# Altium schematic symbol library TTN_Gateway_V2.3.1.SCHLIB: 45 symbols
Pins are listed as number, name and electrical type; pins without a type are passive.

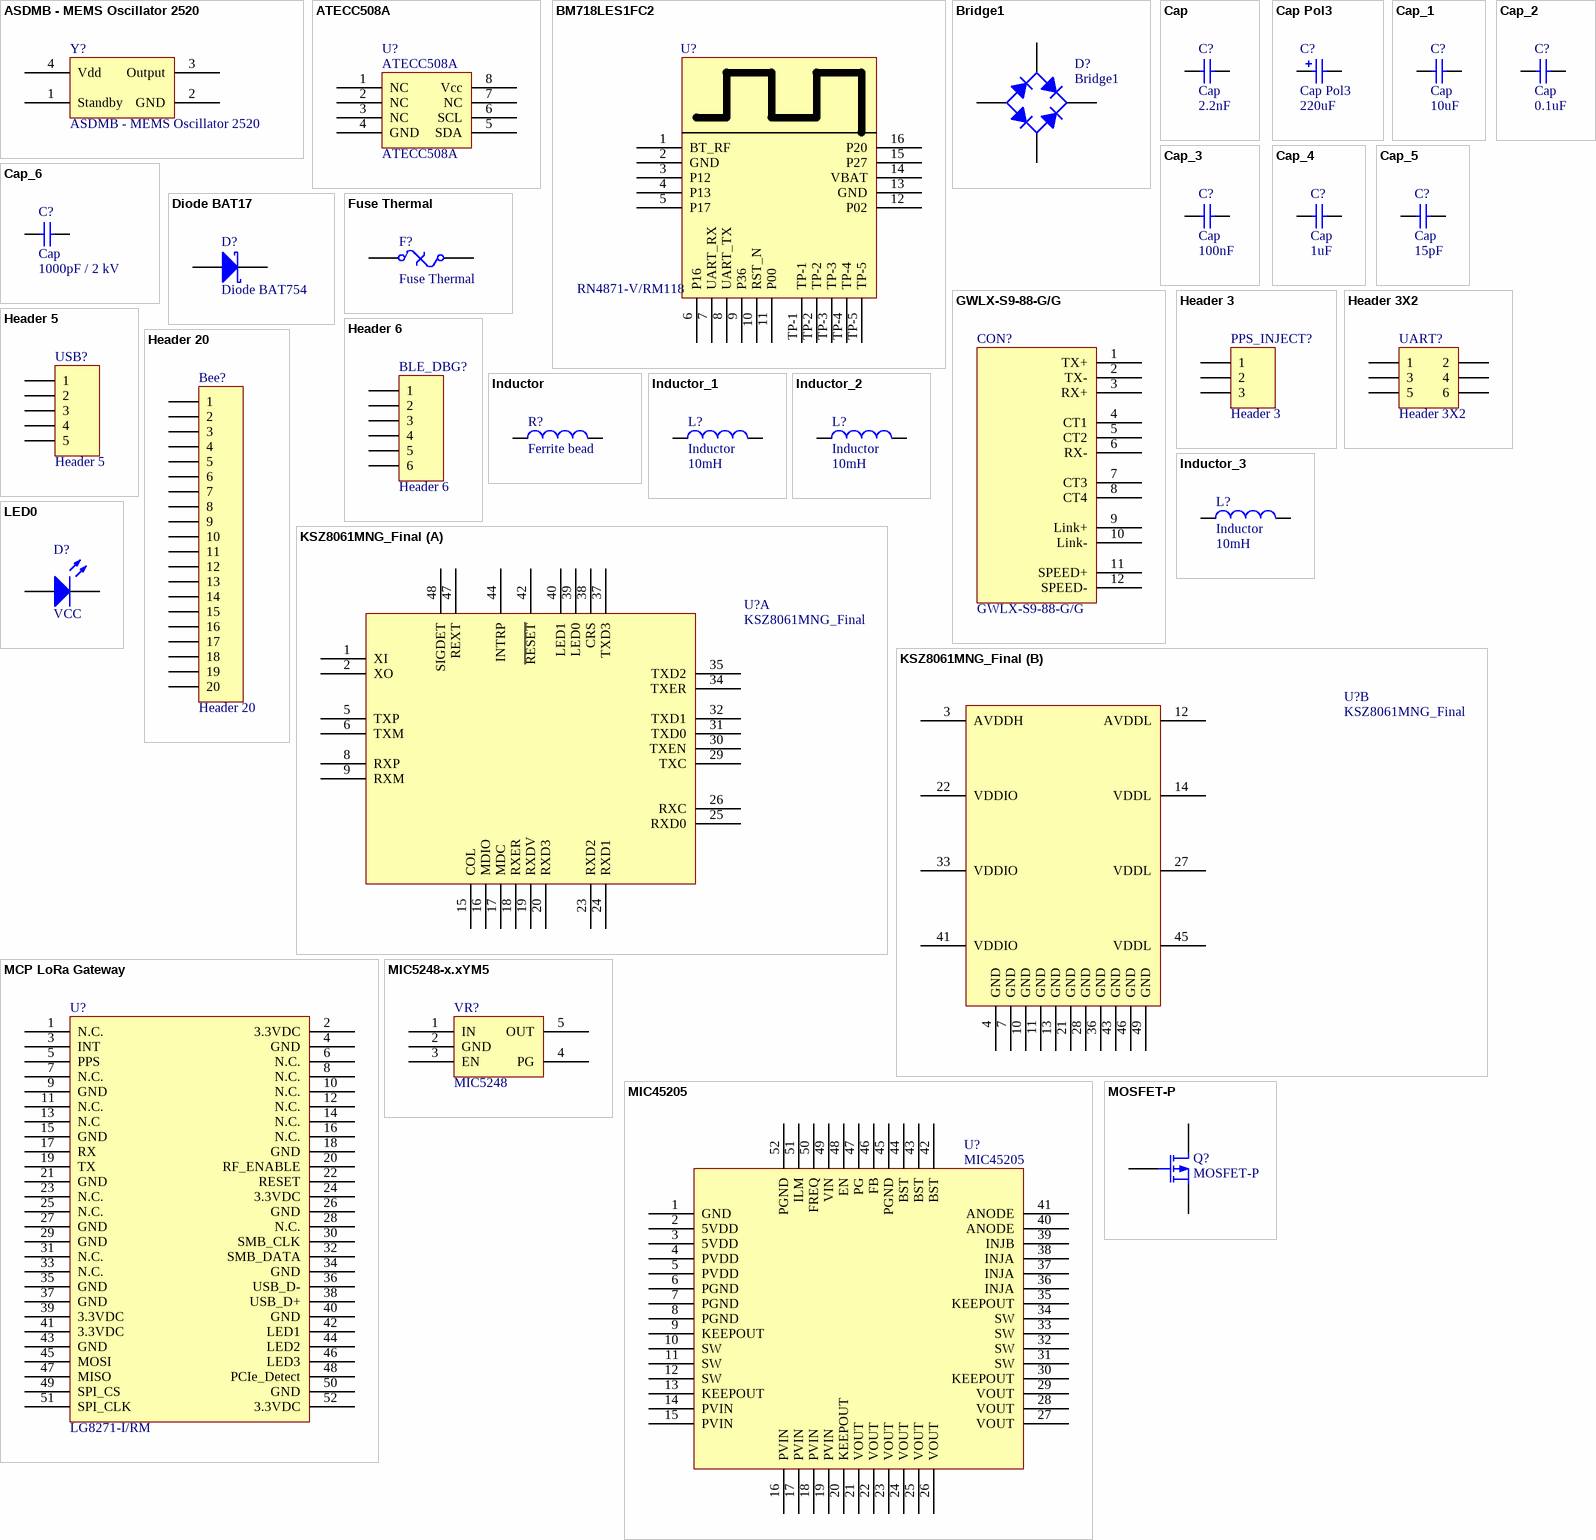
[diagram p0: symbols ASDMB - MEMS Oscillator 2520 to MOSFET-P]

## ASDMB - MEMS Oscillator 2520
designator Y?
footprint BT-XTAL_2520
pins: 1 Standby, 2 GND, 3 Output, 4 Vdd

## ATECC508A
designator U?
footprint UDFN-MU8 (Footprint not found)
footprint 8MA4 (SON, 8-Leads, Body 2x2mm, Pitch 0.5mm)
footprint UDFN-MU8 (SON, 8-Leads, Body 2x3mm, Pitch 0.5mm, Microchip Recommended)
footprint UDFN-MU8 (SON, 8-Leads, Body 2x3mm, Pitch 0.5mm, Microchip Recommended)
footprint DFN-MF8 (SON, 8-Leads, Body 3x3mm, Pitch 0.65mm, Microchip Recommended)
footprint UDFN-MU8 (SON, 8-Leads, Body 2x3mm, Pitch 0.5mm, Microchip Recommended)
footprint UDFN-MU8-non-thermal (UDFN, 8-Leads, Body 2x3mm, Pitch 0.5mm, Microchip Recommended)
footprint UDFN-MU8-non-thermal (UDFN, 8-Leads, Body 2x3mm, Pitch 0.5mm, Microchip Recommended)
pins: 1 NC, 2 NC, 3 NC, 4 GND, 5 SDA, 6 SCL, 7 NC, 8 Vcc

## BM718LES1FC2
designator U?, comment RN4871-V/RM118
RN4871-V/RM118 Bluetooth 4.2 LE Mesh
footprint BM71BLES1FC2 (Microchip BM71BLES1FC2 BLE module)
pins: 1 BT_RF, 2 GND, 3 P12, 4 P13, 5 P17, 6 P16, 7 UART_RX, 8 UART_TX, 9 P36, 10 RST_N, 11 P00, 12 P02, 13 GND, 14 VBAT, 15 P27, 16 P20, TP-1, TP-2, TP-3, TP-4, TP-5

## Bridge1
designator D?
Full Wave Diode Bridge; Published: 8-Jun-2000; LatestRevisionDate: 29-May-2009; LatestRevisionNote: Sch pins A & K swapped.; DatasheetVersion: E2732B; PackageReference: D-38; Publisher: Altium Limited; PackageDescription: Bridge Rectifier; 4 Terminals; Body 9.4 x 9.4 mm (typ); Pitch 5.08 mm; Supplier 1: Digi-Key; Supplier Part Number 1: DF04SCT-ND; Supplier 2: Farnell; Supplier Part Number 2: 1467469; Datasheet: https://www.digikey.nl/product-detail/en/fairchild-on-semiconductor/DF04S/DF04SCT-ND/965570
footprint D-38 (Bridge Rectifier; 4 Terminals; Body 9.4 x 9.4 mm (typ); Pitch 5.08 mm)
simulation model BRIDGE (Spice Subcircuit)
footprint 4-SDIP
footprint BR6 Rectifier (Rectifier BR6 footprint)
footprint BR6 Rectifier (Rectifier BR6 footprint)
footprint BR6 Rectifier Small (Rectifier BR6 footprint)
pins: 1 K, 2 A, 3 C, 4 C

## Cap
designator C?  value 2.2nF
Capacitor; Published: 8-Jun-2000; LatestRevisionDate: 17-Jul-2002; LatestRevisionNote: Re-released for DXP Platform.; PackageReference: RAD-0.3; Publisher: Altium Limited; PackageDescription: Radial Cap, Thru-Hole; 2 Leads; 0.3 in Pin Spacing
simulation model CAP (Capacitor)
signal-integrity model Cap
footprint C0603 (Chip Capacitor, Body 1.6x0.8mm, IPC High Density)
pins: 1, 2

## Cap Pol3
designator C?  value 220uF
Polarized Capacitor (Surface Mount); Published: 8-Jun-2000; LatestRevisionDate: 29-May-2009; LatestRevisionNote: IPC-7351 Footprint Added.; PackageReference: C0805; Publisher: Altium Limited; PackageDescription: Chip Capacitor
footprint C0805 (Chip Capacitor, Body 2.0x1.3mm, IPC High Density)
footprint 1812 (Chip Capacitor, Body 4.5x3.2mm, IPC High Density)
footprint 1825 (Chip Capacitor, Body 4.5x6.4mm, IPC High Density)
footprint C2225 (Chip Capacitor, Body 5.7x6.4mm, IPC High Density)
footprint 2220 (Chip Capacitor, Body 5.7x5.0mm, IPC High Density)
simulation model CAP (Capacitor)
signal-integrity model Cap Pol
footprint RB5-10.5 (Capacitor (Radial); 2 Leads)
footprint CAP 10 MM
footprint SMD_CAP_9x8.3mm_220uF
footprint SMD_CAP_10x7.7mm_220uF - duplicate (UCD1V221MCL6GS)
pins: 1, 2
1 alternate drawing of the same symbol

## Cap_1
designator C?, comment Cap  value 10uF
Capacitor; Published: 8-Jun-2000; LatestRevisionDate: 17-Jul-2002; LatestRevisionNote: Re-released for DXP Platform.; PackageReference: RAD-0.3; Publisher: Altium Limited; PackageDescription: Radial Cap, Thru-Hole; 2 Leads; 0.3 in Pin Spacing
simulation model CAP (Capacitor)
signal-integrity model Cap
footprint C0603 (Chip Capacitor, Body 1.6x0.8mm, IPC High Density)
footprint C1206 (Chip Capacitor, Body 3.2x1.6mm, IPC High Density)
footprint C1210 (Chip Capacitor, Body 3.2x2.5mm, IPC High Density)
pins: 1, 2

## Cap_2
designator C?, comment Cap  value 0.1uF
Capacitor; Published: 8-Jun-2000; LatestRevisionDate: 17-Jul-2002; LatestRevisionNote: Re-released for DXP Platform.; PackageReference: RAD-0.3; Publisher: Altium Limited; PackageDescription: Radial Cap, Thru-Hole; 2 Leads; 0.3 in Pin Spacing
simulation model CAP (Capacitor)
signal-integrity model Cap
footprint C0603 (Chip Capacitor, Body 1.6x0.8mm, IPC High Density)
footprint C1206 (Chip Capacitor, Body 3.2x1.6mm, IPC High Density)
pins: 1, 2

## Cap_3
designator C?, comment Cap  value 100nF
Capacitor; Published: 8-Jun-2000; LatestRevisionDate: 17-Jul-2002; LatestRevisionNote: Re-released for DXP Platform.; PackageReference: RAD-0.3; Publisher: Altium Limited; PackageDescription: Radial Cap, Thru-Hole; 2 Leads; 0.3 in Pin Spacing
footprint RAD-0.3 (Radial Cap, Thru-Hole; 2 Leads; 0.3 in Pin Spacing)
simulation model CAP (Capacitor)
signal-integrity model Cap
footprint 6-0805_L (Chip Resistor, Body 2.0x1.2mm, IPC High Density)
pins: 1, 2

## Cap_4
designator C?, comment Cap  value 1uF
Capacitor; Published: 8-Jun-2000; LatestRevisionDate: 17-Jul-2002; LatestRevisionNote: Re-released for DXP Platform.; PackageReference: RAD-0.3; Publisher: Altium Limited; PackageDescription: Radial Cap, Thru-Hole; 2 Leads; 0.3 in Pin Spacing
footprint RAD-0.3 (Radial Cap, Thru-Hole; 2 Leads; 0.3 in Pin Spacing)
simulation model CAP (Capacitor)
signal-integrity model Cap
footprint C0805 (Chip Capacitor, Body 2.0x1.3mm, IPC High Density)
footprint J1-0603 (Chip Resistor, Body 1.6x0.8mm, IPC High Density)
footprint C0603 (Chip Capacitor, Body 1.6x0.8mm, IPC High Density)
pins: 1, 2

## Cap_5
designator C?, comment Cap  value 15pF
Capacitor; Published: 8-Jun-2000; LatestRevisionDate: 17-Jul-2002; LatestRevisionNote: Re-released for DXP Platform.; PackageReference: RAD-0.3; Publisher: Altium Limited; PackageDescription: Radial Cap, Thru-Hole; 2 Leads; 0.3 in Pin Spacing
simulation model CAP (Capacitor)
signal-integrity model Cap
footprint C0603 (Chip Capacitor, Body 1.6x0.8mm, IPC High Density)
footprint C0805 (Chip Capacitor, Body 2.0x1.3mm, IPC High Density)
pins: 1, 2

## Cap_6
designator C?, comment Cap  value 1000pF / 2 kV
Capacitor; Published: 8-Jun-2000; LatestRevisionDate: 17-Jul-2002; LatestRevisionNote: Re-released for DXP Platform.; PackageReference: RAD-0.3; Publisher: Altium Limited; PackageDescription: Radial Cap, Thru-Hole; 2 Leads; 0.3 in Pin Spacing
footprint RAD-0.3 (Radial Cap, Thru-Hole; 2 Leads; 0.3 in Pin Spacing)
simulation model CAP (Capacitor)
signal-integrity model Cap
footprint CAP HV 5-7.5mm (Radial Cap, Thru-Hole; 2 Leads; 0.3 in Pin Spacing)
pins: 1, 2

## Diode BAT17
designator D?, comment Diode BAT754
Silicon RF Schottky Diode for Mixer Applications in the VHF/UHF Range; Note: Pin 2 is not connected and not drawn.; Published: 21-Mar-2003; LatestRevisionDate: 29-May-2009; LatestRevisionNote: IPC-7351 Footprint Added.; DatasheetVersion: Oct-1999; PackageVersion: Sep-2001; PackageReference: SOT-23; Publisher: Altium Limited; PackageDescription: 3-Pin SOT-23 Package 0.95 mm Pitch, 2.5 mm Lead Span; ComponentLink1Description: Manufacturer Link; ComponentLink1URL: http://www.infineon.com/; ComponentLink2Description: Datasheet; ComponentLink2URL: http://www.infineon.com/upload/Document/cmc_upload/documents/009/363/bat17series.pdf
footprint SOT-23_N (SOT23, 3-Leads, Body 2.9x1.3mm, Pitch 0.95mm, Lead Span 2.5mm, IPC Medium Density)
footprint SOT-23_L (SOT23, 3-Leads, Body 2.9x1.3mm, Pitch 0.95mm, Lead Span 2.5mm, IPC High Density)
footprint SOT-23_M (SOT23, 3-Leads, Body 2.9x1.3mm, Pitch 0.95mm, Lead Span 2.5mm, IPC Low Density)
simulation model D188 (DIODE)
pins: 1 A, 3 K

## Fuse Thermal
designator F?
Thermal Fuse; Published: 24-Mar-1999; LatestRevisionDate: 17-Jul-2002; LatestRevisionNote: Re-released for DXP Platform.; PackageReference: PIN-W2/E2.8; Publisher: Altium Limited; PackageDescription: Thru-Hole; 2 Leads
footprint 1812-polyfuse (Chip Capacitor, Body 4.5x3.2mm, IPC High Density)
pins: 1, 2

## GWLX-S9-88-G/G
designator CON?
GWLX-S9-88-G/G Ethernet Jack w/Leds
footprint GWLX-S9-88-G/G (GWLX-S9-88-G/G Ethernet Jack with Leds)
pins: 1 TX+, 2 TX-, 3 RX+, 4 CT1, 5 CT2, 6 RX-, 7 CT3, 8 CT4, 9 Link+, 10 Link-, 11 SPEED+, 12 SPEED-

## Header 3
designator PPS_INJECT?
Header, 3-Pin; LatestRevisionDate: 17-Jul-2002; LatestRevisionNote: Re-released for DXP Platform.; Publisher: Altium Limited
footprint HDR1X3 (Connector; Header; 3 Position)
signal-integrity model Connector
pins: 1, 2, 3

## Header 3X2
designator UART?
Header, 3-Pin, Dual row; LatestRevisionDate: 17-Jul-2002; LatestRevisionNote: Re-released for DXP Platform.; Publisher: Altium Limited
footprint HDR2X3 (Connector; Header; 3x2 Position)
signal-integrity model Connector
pins: 1, 2, 3, 4, 5, 6

## Header 5
designator USB?
Header, 5-Pin; LatestRevisionDate: 17-Jul-2002; LatestRevisionNote: Re-released for DXP Platform.; Publisher: Altium Limited
footprint HDR1X5 (Connector; Header; 5 Position)
signal-integrity model Connector
footprint usb
footprint 10118193-0001LF (Mirco USB Connector)
footprint Vertical MicroUSB (GCT vertical throughole usb: Farnell: 1080990)
footprint Vertical Micro USB SMD (KMMVX-SMT-BS-BTR)
footprint Vertical MicroUSB (GCT vertical throughole usb: Farnell: 1080990)
pins: 1, 2, 3, 4, 5

## Header 6
designator BLE_DBG?
Header, 6-Pin; LatestRevisionDate: 17-Jul-2002; LatestRevisionNote: Re-released for DXP Platform.; Publisher: Altium Limited
footprint HDR1X6 (Connector; Header; 6 Position)
signal-integrity model Connector
pins: 1, 2, 3, 4, 5, 6

## Header 20
designator Bee?
Header, 20-Pin; LatestRevisionDate: 17-Jul-2002; LatestRevisionNote: Re-released for DXP Platform.; Publisher: Altium Limited
footprint HDR1X20 (Connector; Header; 20 Position)
signal-integrity model Connector
footprint PCBComponent_1
footprint BeeSlot
pins: 1, 2, 3, 4, 5, 6, 7, 8, 9, 10, 11, 12, 13, 14, 15, 16, 17, 18, 19, 20

## Inductor
designator R?, comment Ferrite bead
Inductor; Code_IEC: 1005; Published: 8-Jun-2000; LatestRevisionDate: 29-May-2009; LatestRevisionNote: IPC-7351 Footprint Added.; PackageReference: 0402-A; Publisher: Altium Limited; PackageDescription: Chip Inductor; Code_JEITA: 0402
simulation model INDUCTOR (Inductor)
signal-integrity model Inductor
footprint R0603
pins: 1, 2

## Inductor_1
designator L?, comment Inductor  value 10mH
Code_IEC: 1005; Published: 8-Jun-2000; LatestRevisionDate: 29-May-2009; LatestRevisionNote: IPC-7351 Footprint Added.; PackageReference: 0402-A; Publisher: Altium Limited; PackageDescription: Chip Inductor; Code_JEITA: 0402
footprint 0402-A (Chip Inductor, Body 1.0x0.5mm, IPC High Density)
footprint INDC1608L (Chip Inductor, Body 1.6x0.8mm, IPC High Density)
footprint 2029 (Chip Inductor, Body 2.0x1.2mm, IPC High Density)
footprint 0603 (Chip Inductor, Body 0.6x0.3mm, IPC High Density)
footprint INDC3216 (Chip Inductor, Body 3.2x1.6mm, IPC High Density)
footprint INDC4532 (Chip Inductor, Body 4.5x3.2mm, IPC High Density)
simulation model INDUCTOR (Inductor)
signal-integrity model Inductor
footprint 0603 (Chip Inductor, Body 0.6x0.3mm, IPC High Density)
footprint 6-0805_L (Chip Resistor, Body 2.0x1.2mm, IPC High Density)
pins: 1, 2

## Inductor_2
designator L?, comment Inductor  value 10mH
Code_IEC: 1005; Published: 8-Jun-2000; LatestRevisionDate: 29-May-2009; LatestRevisionNote: IPC-7351 Footprint Added.; PackageReference: 0402-A; Publisher: Altium Limited; PackageDescription: Chip Inductor; Code_JEITA: 0402
footprint 0402-A (Chip Inductor, Body 1.0x0.5mm, IPC High Density)
footprint INDC1608L (Chip Inductor, Body 1.6x0.8mm, IPC High Density)
footprint 2029 (Chip Inductor, Body 2.0x1.2mm, IPC High Density)
footprint 0603 (Chip Inductor, Body 0.6x0.3mm, IPC High Density)
footprint INDC3216 (Chip Inductor, Body 3.2x1.6mm, IPC High Density)
footprint INDC4532 (Chip Inductor, Body 4.5x3.2mm, IPC High Density)
simulation model INDUCTOR (Inductor)
signal-integrity model Inductor
footprint 6-0805_L (Chip Resistor, Body 2.0x1.2mm, IPC High Density)
pins: 1, 2

## Inductor_3
designator L?, comment Inductor  value 10mH
Code_IEC: 1005; Published: 8-Jun-2000; LatestRevisionDate: 29-May-2009; LatestRevisionNote: IPC-7351 Footprint Added.; PackageReference: 0402-A; Publisher: Altium Limited; PackageDescription: Chip Inductor; Code_JEITA: 0402
footprint 0402-A (Chip Inductor, Body 1.0x0.5mm, IPC High Density)
footprint INDC1608L (Chip Inductor, Body 1.6x0.8mm, IPC High Density)
footprint 2029 (Chip Inductor, Body 2.0x1.2mm, IPC High Density)
footprint 0603 (Chip Inductor, Body 0.6x0.3mm, IPC High Density)
footprint INDC3216 (Chip Inductor, Body 3.2x1.6mm, IPC High Density)
footprint INDC4532 (Chip Inductor, Body 4.5x3.2mm, IPC High Density)
simulation model INDUCTOR (Inductor)
signal-integrity model Inductor
footprint 6-0805_M (Chip Resistor, Body 2.0x1.2mm, IPC Low Density)
footprint 2029 (Chip Inductor, Body 2.0x1.2mm, IPC High Density)
pins: 1, 2

## KSZ8061MNG_Final
designator U?
Micrel KSZ8061MNG PHY-Ethernet Tranceiver
part A pins: 1 XI, 2 XO, 5 TXP, 6 TXM, 8 RXP, 9 RXM, 15 COL, 16 MDIO, 17 MDC, 18 RXER, 19 RXDV, 20 RXD3, 23 RXD2, 24 RXD1, 25 RXD0, 26 RXC, 29 TXC, 30 TXEN, 31 TXD0, 32 TXD1, 34 TXER, 35 TXD2, 37 TXD3, 38 CRS, 39 LED0, 40 LED1, 42 ~{RESET}, 44 INTRP, 47 REXT, 48 SIGDET
part B pins: 3 AVDDH, 4 GND, 7 GND, 10 GND, 11 GND, 12 AVDDL, 13 GND, 14 VDDL, 21 GND, 22 VDDIO, 27 VDDL, 28 GND, 33 VDDIO, 36 GND, 41 VDDIO, 43 GND, 45 VDDL, 46 GND, 49 GND

## LED0
designator D?, comment VCC
Typical INFRARED GaAs LED; Published: 8-Jun-2000; LatestRevisionDate: 08-Jul-2005; LatestRevisionNote: Mech Layer 1 removed.; PackageReference: LED-0; Publisher: Altium Limited; PackageDescription: LED; 2 Leads
simulation model LED0 (Diode)
footprint C0603 (Chip Capacitor, Body 1.6x0.8mm, IPC High Density)
pins: 1 A, 2 K

## MCP LoRa Gateway
designator U?, comment LG8271-I/RM
Microchip Mini PCI Express LoRa Radio
footprint BTB-SM0-8-2H52F (Board-to-Board Connector, SMT, Right Angle, Pitch 0.8mm, 52-Position, Female)
pins: 1 N.C., 2 3.3VDC, 3 INT, 4 GND, 5 PPS, 6 N.C., 7 N.C., 8 N.C., 9 GND, 10 N.C., 11 N.C., 12 N.C., 13 N.C, 14 N.C., 15 GND, 16 N.C., 17 RX, 18 GND, 19 TX, 20 RF_ENABLE, 21 GND, 22 RESET, 23 N.C., 24 3.3VDC, 25 N.C., 26 GND, 27 GND, 28 N.C., 29 GND, 30 SMB_CLK, 31 N.C., 32 SMB_DATA, 33 N.C., 34 GND, 35 GND, 36 USB_D-, 37 GND, 38 USB_D+, 39 3.3VDC, 40 GND, 41 3.3VDC, 42 LED1, 43 GND, 44 LED2, 45 MOSI, 46 LED3, 47 MISO, 48 PCIe_Detect, 49 SPI_CS, 50 GND, 51 SPI_CLK, 52 3.3VDC

## MIC5248-x.xYM5
designator VR?, comment MIC5248
Microchip MIC5248 Regulator
footprint SOIJ-SM8_L (SOP, 8-Leads, Body 5.2x5.2mm, Pitch 1.27mm, IPC High Density)
footprint SOT23-5_L (SOT23, 5-Leads, Body 2.9x1.6mm, Pitch 0.95mm, Lead Span 2.8mm, IPC High Density)
pins: 1 IN, 2 GND, 3 EN, 4 PG, 5 OUT

## MIC45205
designator U?
MICREL45205 DC/DC Converter
footprint QFN50P800X800-52W4N (QFN, 52-Leads, Body 8x8mm, Pitch 0.5mm, IPC Medium Density)
footprint 45205 Thermaly Enhanced
pins: 1 GND, 2 5VDD, 3 5VDD, 4 PVDD, 5 PVDD, 6 PGND, 7 PGND, 8 PGND, 9 KEEPOUT, 10 SW, 11 SW, 12 SW, 13 KEEPOUT, 14 PVIN, 15 PVIN, 16 PVIN, 17 PVIN, 18 PVIN, 19 PVIN, 20 KEEPOUT, 21 VOUT, 22 VOUT, 23 VOUT, 24 VOUT, 25 VOUT, 26 VOUT, 27 VOUT, 28 VOUT, 29 VOUT, 30 KEEPOUT, 31 SW, 32 SW, 33 SW, 34 SW, 35 KEEPOUT, 36 INJA, 37 INJA, 38 INJA, 39 INJB, 40 ANODE, 41 ANODE, 42 BST, 43 BST, 44 BST, 45 PGND, 46 FB, 47 PG, 48 EN, 49 VIN, 50 FREQ, 51 ILM, 52 PGND

## MOSFET-P
designator Q?
P-Channel MOSFET; Published: 8-Jun-2000; LatestRevisionDate: 17-Jul-2002; LatestRevisionNote: Re-released for DXP Platform.; PackageVersion: 1995/1996; PackageReference: E3; Publisher: Altium Limited; PackageDescription: TO, Flat Index; 3 In-Line, Axial Leads; Body Dia. 4.6mm; Lead Dia. 0.5 mm (max)
footprint E3 (TO, Flat Index; 3 In-Line, Axial Leads; Body Dia. 4.6mm; Lead Dia. 0.5 mm (max))
simulation model PMOS (MOSFET-P)
footprint SOT23_N (SOT23, 3-Leads, Body 2.9x1.3mm, Pitch 0.95mm, Lead Span 2.3mm - Reverse Pinning, IPC Medium Density)
footprint SOT23_N (SOT23, 3-Leads, Body 2.9x1.3mm, Pitch 0.95mm, Lead Span 2.3mm - Reverse Pinning, IPC Medium Density)
footprint SOT23_N (SOT23, 3-Leads, Body 2.9x1.3mm, Pitch 0.95mm, Lead Span 2.3mm - Reverse Pinning, IPC Medium Density); pin to pad 2>3 3>2
pins: 1 D, 2 G, 3 S

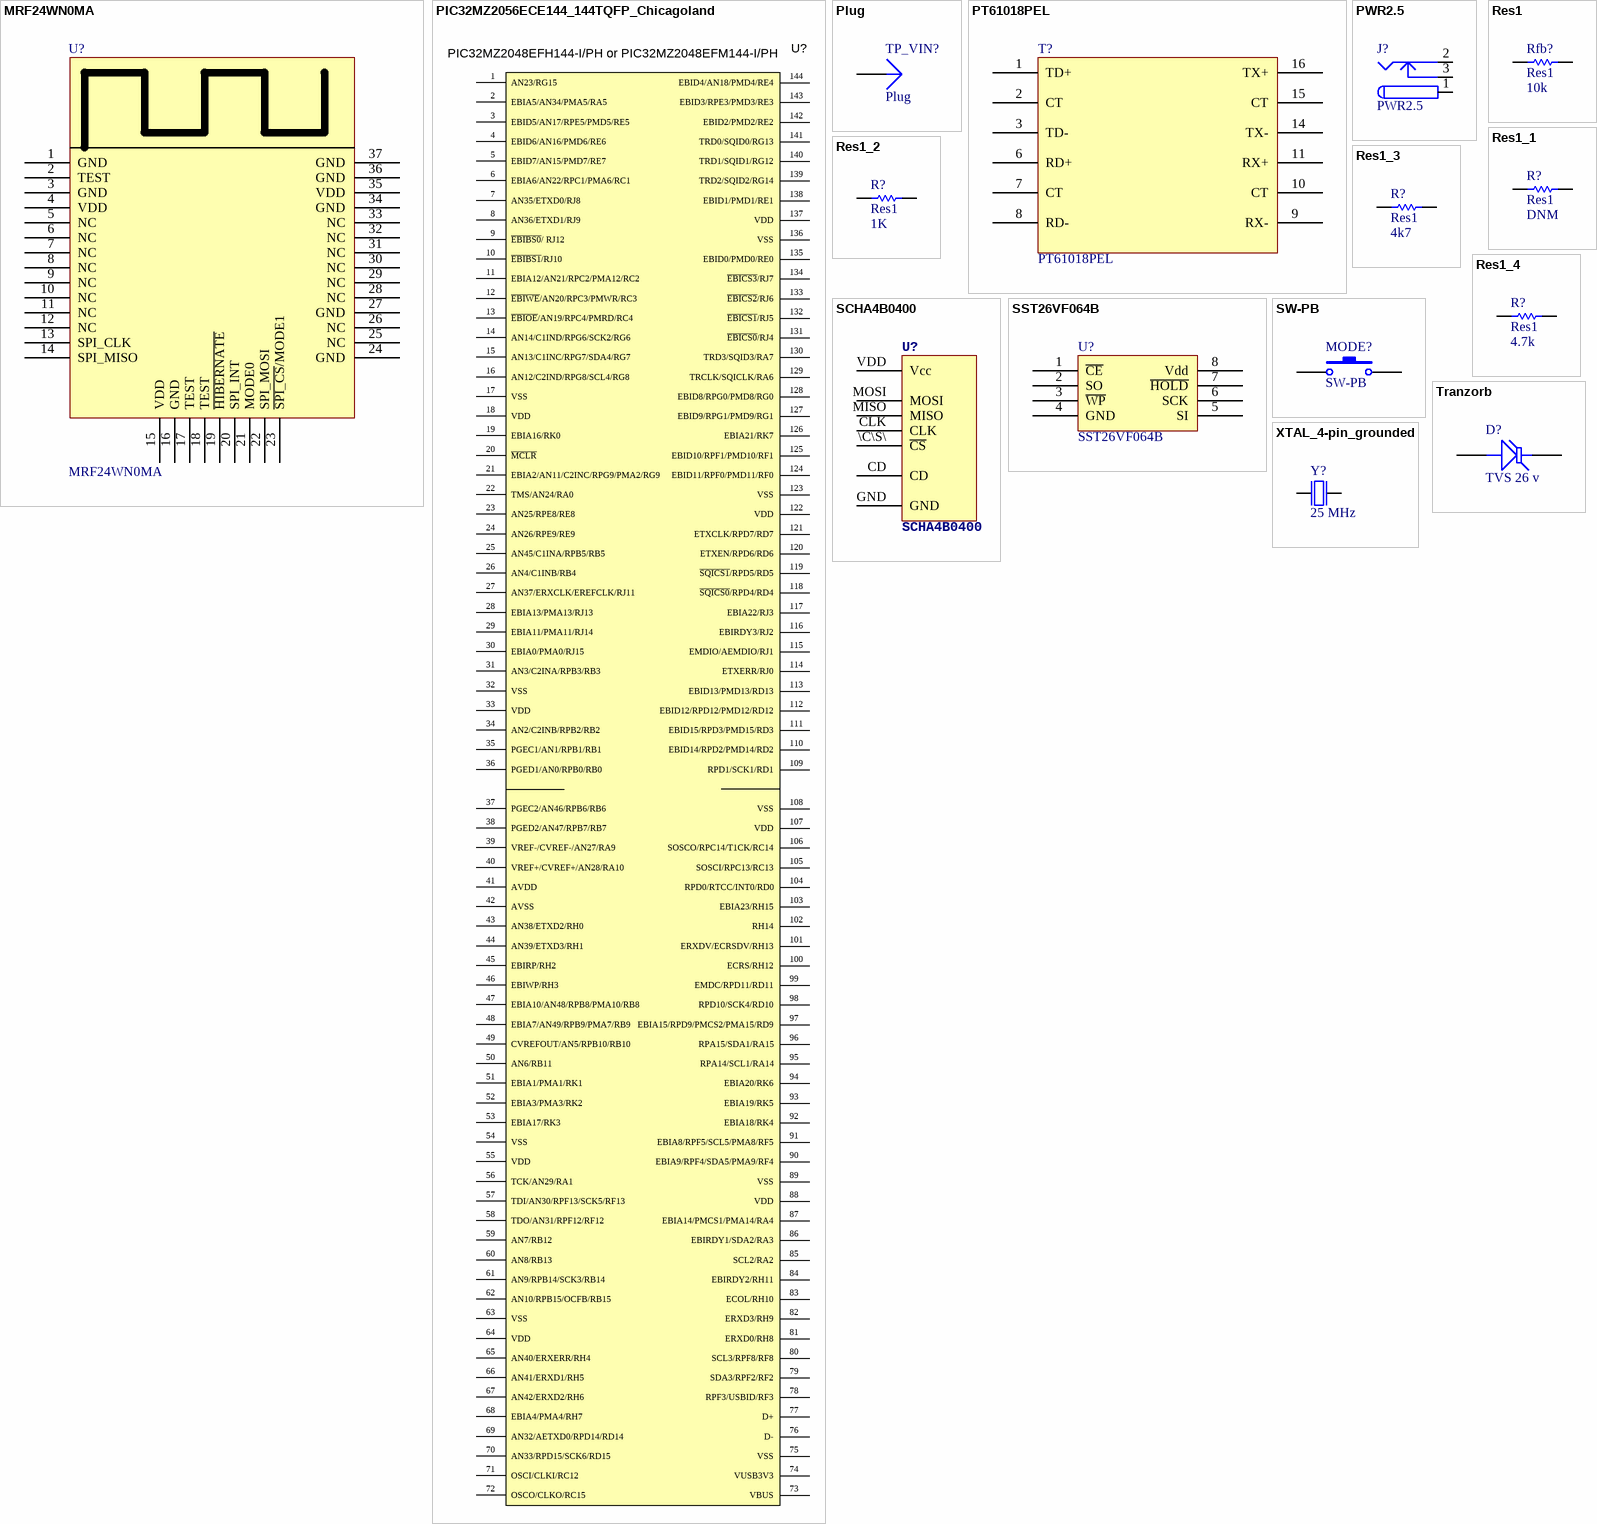
[diagram p1: symbols MRF24WN0MA to XTAL_4-pin_grounded]

## MRF24WN0MA
designator U?
MRF24WN0MA Wifi SOC
footprint MRF24WN0MA (MRF24WN0MA - Wifi B/G/N Module)
pins: 1 GND, 2 TEST, 3 GND, 4 VDD, 5 NC, 6 NC, 7 NC, 8 NC, 9 NC, 10 NC, 11 NC, 12 NC, 13 SPI_CLK, 14 SPI_MISO, 15 VDD, 16 GND, 17 TEST, 18 TEST, 19 ~{HIBERNATE}, 20 SPI_INT, 21 MODE0, 22 SPI_MOSI, 23 ~{SPI_CS}/MODE1, 24 GND, 25 NC, 26 NC, 27 GND, 28 NC, 29 NC, 30 NC, 31 NC, 32 NC, 33 NC, 34 GND, 35 VDD, 36 GND, 37 GND

## PIC32MZ2056ECE144_144TQFP_Chicagoland
designator U?, comment PIC32MZ2048EFH144-I/PH or PIC32MZ2048EFM144-I/PH
PIC32MZ2056ECE144 Chicagoland; Manufacturer: Microchip
footprint TQFP 144 (16x 16 mm)
footprint MCHP-TQFP-PH144_M (QFP, 144-Leads, Body 16x16mm, Pitch 0.4mm, IPC Low Density)
pins: 1 AN23/RG15, 2 EBIA5/AN34/PMA5/RA5, 3 EBID5/AN17/RPE5/PMD5/RE5, 4 EBID6/AN16/PMD6/RE6, 5 EBID7/AN15/PMD7/RE7, 6 EBIA6/AN22/RPC1/PMA6/RC1, 7 AN35/ETXD0/RJ8, 8 AN36/ETXD1/RJ9, 9 ~{EBIBS0}/ RJ12, 10 ~{EBIBS1}/RJ10, 11 EBIA12/AN21/RPC2/PMA12/RC2, 12 ~{EBIWE}/AN20/RPC3/PMWR/RC3, 13 ~{EBIOE}/AN19/RPC4/PMRD/RC4, 14 AN14/C1IND/RPG6/SCK2/RG6, 15 AN13/C1INC/RPG7/SDA4/RG7, 16 AN12/C2IND/RPG8/SCL4/RG8, 17 VSS, 18 VDD, 19 EBIA16/RK0, 20 ~{MCLR}, 21 EBIA2/AN11/C2INC/RPG9/PMA2/RG9, 22 TMS/AN24/RA0, 23 AN25/RPE8/RE8, 24 AN26/RPE9/RE9, 25 AN45/C1INA/RPB5/RB5, 26 AN4/C1INB/RB4, 27 AN37/ERXCLK/EREFCLK/RJ11, 28 EBIA13/PMA13/RJ13, 29 EBIA11/PMA11/RJ14, 30 EBIA0/PMA0/RJ15, 31 AN3/C2INA/RPB3/RB3, 32 VSS, 33 VDD, 34 AN2/C2INB/RPB2/RB2, 35 PGEC1/AN1/RPB1/RB1, 36 PGED1/AN0/RPB0/RB0, 37 PGEC2/AN46/RPB6/RB6, 38 PGED2/AN47/RPB7/RB7, 39 VREF-/CVREF-/AN27/RA9, 40 VREF+/CVREF+/AN28/RA10, 41 AVDD, 42 AVSS, 43 AN38/ETXD2/RH0, 44 AN39/ETXD3/RH1, 45 EBIRP/RH2, 46 EBIWP/RH3, 47 EBIA10/AN48/RPB8/PMA10/RB8, 48 EBIA7/AN49/RPB9/PMA7/RB9, 49 CVREFOUT/AN5/RPB10/RB10, 50 AN6/RB11, 51 EBIA1/PMA1/RK1, 52 EBIA3/PMA3/RK2, 53 EBIA17/RK3, 54 VSS, 55 VDD, 56 TCK/AN29/RA1, 57 TDI/AN30/RPF13/SCK5/RF13, 58 TDO/AN31/RPF12/RF12, 59 AN7/RB12, 60 AN8/RB13, 61 AN9/RPB14/SCK3/RB14, 62 AN10/RPB15/OCFB/RB15, 63 VSS, 64 VDD, 65 AN40/ERXERR/RH4, 66 AN41/ERXD1/RH5, 67 AN42/ERXD2/RH6, 68 EBIA4/PMA4/RH7, 69 AN32/AETXD0/RPD14/RD14, 70 AN33/RPD15/SCK6/RD15, 71 OSCI/CLKI/RC12, 72 OSCO/CLKO/RC15, 73 VBUS, 74 VUSB3V3, 75 VSS, 76 D-, 77 D+, 78 RPF3/USBID/RF3, 79 SDA3/RPF2/RF2, 80 SCL3/RPF8/RF8, 81 ERXD0/RH8, 82 ERXD3/RH9, 83 ECOL/RH10, 84 EBIRDY2/RH11, 85 SCL2/RA2, 86 EBIRDY1/SDA2/RA3, 87 EBIA14/PMCS1/PMA14/RA4, 88 VDD, 89 VSS, 90 EBIA9/RPF4/SDA5/PMA9/RF4, 91 EBIA8/RPF5/SCL5/PMA8/RF5, 92 EBIA18/RK4, 93 EBIA19/RK5, 94 EBIA20/RK6, 95 RPA14/SCL1/RA14, 96 RPA15/SDA1/RA15, 97 EBIA15/RPD9/PMCS2/PMA15/RD9, 98 RPD10/SCK4/RD10, 99 EMDC/RPD11/RD11, 100 ECRS/RH12, 101 ERXDV/ECRSDV/RH13, 102 RH14, 103 EBIA23/RH15, 104 RPD0/RTCC/INT0/RD0, 105 SOSCI/RPC13/RC13, 106 SOSCO/RPC14/T1CK/RC14, 107 VDD, 108 VSS, 109 RPD1/SCK1/RD1, 110 EBID14/RPD2/PMD14/RD2, 111 EBID15/RPD3/PMD15/RD3, 112 EBID12/RPD12/PMD12/RD12, 113 EBID13/PMD13/RD13, 114 ETXERR/RJ0, 115 EMDIO/AEMDIO/RJ1, 116 EBIRDY3/RJ2, 117 EBIA22/RJ3, 118 ~{SQICS0}/RPD4/RD4, 119 ~{SQICS1}/RPD5/RD5, 120 ETXEN/RPD6/RD6, 121 ETXCLK/RPD7/RD7, 122 VDD, 123 VSS, 124 EBID11/RPF0/PMD11/RF0, 125 EBID10/RPF1/PMD10/RF1, 126 EBIA21/RK7, 127 EBID9/RPG1/PMD9/RG1, 128 EBID8/RPG0/PMD8/RG0, 129 TRCLK/SQICLK/RA6, 130 TRD3/SQID3/RA7, 131 ~{EBICS0}/RJ4, 132 ~{EBICS1}/RJ5, 133 ~{EBICS2}/RJ6, 134 ~{EBICS3}/RJ7, 135 EBID0/PMD0/RE0, 136 VSS, 137 VDD, 138 EBID1/PMD1/RE1, 139 TRD2/SQID2/RG14, 140 TRD1/SQID1/RG12, 141 TRD0/SQID0/RG13, 142 EBID2/PMD2/RE2, 143 EBID3/RPE3/PMD3/RE3, 144 EBID4/AN18/PMD4/RE4

## Plug
designator TP_VIN?
LatestRevisionDate: 17-Jul-2002; LatestRevisionNote: Re-released for DXP Platform.; Publisher: Altium Limited
footprint PIN1 (Connector; Plug)
signal-integrity model Connector
pins: 1

## PT61018PEL
designator T?
PT61018PEL - Ethernet Transformer
footprint SO-16_L (SOIC, 16-Leads, Body 9.9x3.9mm, Pitch 1.27mm, IPC High Density)
footprint WSOIC16_L (16-Pin Small Outline Integrated Circuit 1.27 mm Pitch, IPC High Density)
pins: 1 TD+, 2 CT, 3 TD-, 6 RD+, 7 CT, 8 RD-, 9 RX-, 10 CT, 11 RX+, 14 TX-, 15 CT, 16 TX+

## PWR2.5
designator J?
Low Voltage Power Supply Connector; Published: 17-Dec-2003; DatasheetDocument: 09-May-2002; Publisher: Altium Limited; ComponentLink1Description: Manufacturer Link; ComponentLink1URL: http://domino.kycon.com/internet/Products.html
footprint KLD-0202 (DC Power Jack, 2.5mm, KLD Series, PCB Mount)
signal-integrity model Connector
pins: 1 (power), 1A (power), 1B (power), 2 (power), 2A (power), 2B (power), 3 (power), 3A (power), 3B (power)

## Res1
designator Rfb?  value 10k
Resistor; Published: 8-Jun-2000; LatestRevisionDate: 17-Jul-2002; LatestRevisionNote: Re-released for DXP Platform.; PackageReference: AXIAL-0.3; Publisher: Altium Limited; PackageDescription: Axial Device, Thru-Hole; 2 Leads; 0.3 in Pin Spacing
footprint AXIAL-0.3 (Axial Device, Thru-Hole; 2 Leads; 0.3 in Pin Spacing)
simulation model RESISTOR (Resistor)
signal-integrity model Res
footprint R0603 (Chip Resistor, Body 1.6x0.8mm, IPC High Density)
pins: 1, 2

## Res1_1
designator R?, comment Res1  value DNM
Resistor; Published: 8-Jun-2000; LatestRevisionDate: 17-Jul-2002; LatestRevisionNote: Re-released for DXP Platform.; PackageReference: AXIAL-0.3; Publisher: Altium Limited; PackageDescription: Axial Device, Thru-Hole; 2 Leads; 0.3 in Pin Spacing
simulation model RESISTOR (Resistor)
signal-integrity model Res
footprint R0603 (Chip Resistor, Body 1.6x0.8mm, IPC High Density)
footprint R0603 (Chip Resistor, Body 1.6x0.8mm, IPC High Density)
pins: 1, 2

## Res1_2
designator R?, comment Res1  value 1K
Resistor; Published: 8-Jun-2000; LatestRevisionDate: 17-Jul-2002; LatestRevisionNote: Re-released for DXP Platform.; PackageReference: AXIAL-0.3; Publisher: Altium Limited; PackageDescription: Axial Device, Thru-Hole; 2 Leads; 0.3 in Pin Spacing
simulation model RESISTOR (Resistor)
signal-integrity model Res
footprint R0603 (Chip Resistor, Body 1.6x0.8mm, IPC High Density)
pins: 1, 2

## Res1_3
designator R?, comment Res1  value 4k7
Resistor; Published: 8-Jun-2000; LatestRevisionDate: 17-Jul-2002; LatestRevisionNote: Re-released for DXP Platform.; PackageReference: AXIAL-0.3; Publisher: Altium Limited; PackageDescription: Axial Device, Thru-Hole; 2 Leads; 0.3 in Pin Spacing
footprint AXIAL-0.3 (Axial Device, Thru-Hole; 2 Leads; 0.3 in Pin Spacing)
simulation model RESISTOR (Resistor)
signal-integrity model Res
footprint 6-0805_N (Chip Resistor, Body 2.0x1.2mm, IPC Medium Density)
footprint R0603 (Chip Resistor, Body 1.6x0.8mm, IPC High Density)
pins: 1, 2

## Res1_4
designator R?, comment Res1  value 4.7k
Resistor; Published: 8-Jun-2000; LatestRevisionDate: 17-Jul-2002; LatestRevisionNote: Re-released for DXP Platform.; PackageReference: AXIAL-0.3; Publisher: Altium Limited; PackageDescription: Axial Device, Thru-Hole; 2 Leads; 0.3 in Pin Spacing
simulation model RESISTOR (Resistor)
signal-integrity model Res
footprint 6-0805_L (Chip Resistor, Body 2.0x1.2mm, IPC High Density)
footprint R0603 (Chip Resistor, Body 1.6x0.8mm, IPC High Density)
pins: 1, 2

## SCHA4B0400
designator U?
footprint SCHA4B0400
pins: \C\S\, CD, CLK, GND, MISO, MOSI, VDD Vcc

## SST26VF064B
designator U?
SST26VF064B Microchip SPI Flash Memory 64Mbit
footprint SOIJ-SM8_M (Footprint not found)
footprint SOIJ-SM8_M (SOP, 8-Leads, Body 5.2x5.2mm, Pitch 1.27mm, IPC Low Density)
pins: 1 ~{CE}, 2 SO, 3 ~{WP}, 4 GND, 5 SI, 6 SCK, 7 ~{HOLD}, 8 Vdd

## SW-PB
designator MODE?
Switch; Published: 24-Mar-1999; LatestRevisionDate: 17-Jul-2002; LatestRevisionNote: Re-released for DXP Platform.; PackageReference: SPST-2; Publisher: Altium Limited; PackageDescription: Switch; 2 Leads
footprint SPST-2 (Switch; 2 Leads)
footprint BUTTON
pins: 1, 2

## Tranzorb
designator D?, comment TVS 26 v
Transient Voltage Suppression (TVS) Diode; Published: 24-Mar-1999; LatestRevisionDate: 17-Jul-2002; LatestRevisionNote: Re-released for DXP Platform.; PackageReference: DO-7; Publisher: Altium Limited; PackageDescription: Axial Lead Diode
footprint DO-7 (Diode, Axial; Body 7 x 2.7 mm (LxDia. max), Lead Dia. 0.53 mm (max))
footprint SOD323 (SOD-323/SC-76; 2 Leads; Body 1.7 x 1.3 mm, (LxW))
pins: 1 A, 2 K

## XTAL_4-pin_grounded
designator Y?, comment 25 MHz
XTAL SMD 2520, 16MHz, 8pF, ±15ppm; Part Number: NX2520SA-16MHZ-STD-CSW-5; Manufacturer: NDK; Note: XTAL SMD 16.000MHz; Artikkelnr Noca: 22019192; Artikkelnr Simpro: N.A.; Manufacturer Part Number: NX2520SA-16MHZ-STD-CSW-5; Datasheet: http://www.ndk.com/images/products/catalog/c_NX2520SA-STD-CSW-5_e.pdf; LatestRevisionDate: 2012-06-15; Pin Count: 4; Publisher: Nordic Semiconductor; Published: 2012-06-15; Value: 16MHz; Supplier: Digi-Key; Supplier part number: 644-1169-1-ND; 2nd source Supplier: *; 2nd source part number: *; Footprint Doc: BT-XTAL_2520
footprint BT-XTAL_2520
footprint BT-XTAL_2520
footprint BT-XTAL_2520
footprint Crystal - ABM3B (5x3.5 mm 8 Mhz Crystal: ABRACON ABM3B)
pins: 1 inp, 2 GND hidden to GND, 3 out, 4 GND hidden to GND